# Altium integrated library Philips Discrete BJT - Low Power.IntLib: 311 symbols (part 3 of 5)
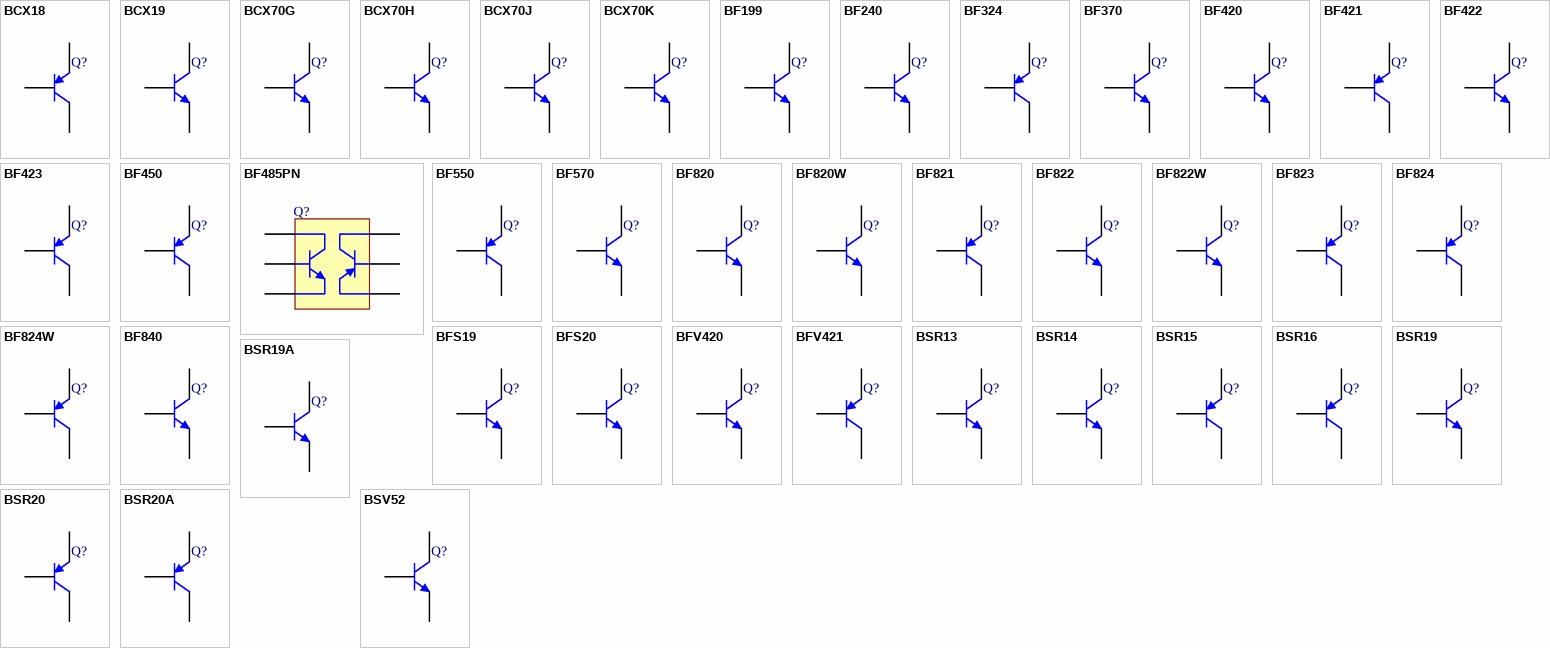
[diagram p10: symbols BCX18 to BSV52]

## BFS20
designator Q?
NPN Medium Frequency Transistor; Published: 17-Sep-2003; DatasheetVersion: 15-Apr-1999; PackageVersion: May-1999; PackageReference: SOT23; Publisher: Altium Limited; PackageDescription: SOT-23; 3 Leads; Body 3.0 x 2.5 mm, inc. leads (LxW max); ComponentLink1Description: Manufacturer Link; ComponentLink1URL: http://www.semiconductors.philips.com/; ComponentLink2Description: Datasheet; ComponentLink2URL: http://www.semiconductors.philips.com/acrobat/datasheets/BFS20_5.pdf
footprint SOT23 (SOT-23; 3 Leads; Body 3.0 x 2.5 mm, inc. leads (LxW max))
simulation model QBFS20 (NPN)
signal-integrity model BFS20
pins: 1 B, 2 E, 3 C

## BFV420
designator Q?
NPN High-voltage Transistor; Published: 17-Sep-2003; DatasheetVersion: 23-Apr-1999; PackageVersion: rev3, May-2000; PackageReference: SOT54; Publisher: Altium Limited; PackageDescription: TO, Flat Index; 3 In-Line, Axial Leads; Body Dia. 4.6mm; Leads 0.48 x 0.45 mm (max); Code_JEDEC: TO-92; ComponentLink1Description: Manufacturer Link; ComponentLink1URL: http://www.semiconductors.philips.com/; ComponentLink2Description: Datasheet; ComponentLink2URL: http://www.semiconductors.philips.com/acrobat/datasheets/BFV420_3.pdf
footprint SOT54 (TO, Flat Index; 3 In-Line, Axial Leads; Body Dia. 4.6mm; Leads 0.48 x 0.45 mm (max))
simulation model QBFV420 (NPN)
signal-integrity model BFV420
pins: 1 B, 2 C, 3 E

## BFV421
designator Q?
PNP High-voltage Transistor; Published: 17-Sep-2003; DatasheetVersion: 23-Apr-1999; PackageVersion: rev3, May-2000; PackageReference: SOT54; Publisher: Altium Limited; PackageDescription: TO, Flat Index; 3 In-Line, Axial Leads; Body Dia. 4.6mm; Leads 0.48 x 0.45 mm (max); Code_JEDEC: TO-92; ComponentLink1Description: Manufacturer Link; ComponentLink1URL: http://www.semiconductors.philips.com/; ComponentLink2Description: Datasheet; ComponentLink2URL: http://www.semiconductors.philips.com/acrobat/datasheets/BFV421_3.pdf
footprint SOT54 (TO, Flat Index; 3 In-Line, Axial Leads; Body Dia. 4.6mm; Leads 0.48 x 0.45 mm (max))
simulation model QBFV421 (PNP)
signal-integrity model BFV421
pins: 1 B, 2 C, 3 E

## BSR13
designator Q?
NPN Switching Transistor; Published: 17-Sep-2003; DatasheetVersion: 15-Apr-1999; PackageVersion: May-1999; PackageReference: SOT23; Publisher: Altium Limited; PackageDescription: SOT-23; 3 Leads; Body 3.0 x 2.5 mm, inc. leads (LxW max); ComponentLink1Description: Manufacturer Link; ComponentLink1URL: http://www.semiconductors.philips.com/; ComponentLink2Description: Datasheet; ComponentLink2URL: http://www.semiconductors.philips.com/acrobat/datasheets/BSR13_BSR14_4.pdf
footprint SOT23 (SOT-23; 3 Leads; Body 3.0 x 2.5 mm, inc. leads (LxW max))
simulation model QBSR13 (NPN)
signal-integrity model BSR13
pins: 1 B, 2 E, 3 C

## BSR14
designator Q?
NPN Switching Transistor; Published: 17-Sep-2003; DatasheetVersion: 15-Apr-1999; PackageVersion: May-1999; PackageReference: SOT23; Publisher: Altium Limited; PackageDescription: SOT-23; 3 Leads; Body 3.0 x 2.5 mm, inc. leads (LxW max); ComponentLink1Description: Manufacturer Link; ComponentLink1URL: http://www.semiconductors.philips.com/; ComponentLink2Description: Datasheet; ComponentLink2URL: http://www.semiconductors.philips.com/acrobat/datasheets/BSR13_BSR14_4.pdf
footprint SOT23 (SOT-23; 3 Leads; Body 3.0 x 2.5 mm, inc. leads (LxW max))
simulation model QBSR14 (NPN)
signal-integrity model BSR14
pins: 1 B, 2 E, 3 C

## BSR15
designator Q?
PNP Switching Transistor; Published: 17-Sep-2003; DatasheetVersion: 15-Apr-1999; PackageVersion: May-1999; PackageReference: SOT23; Publisher: Altium Limited; PackageDescription: SOT-23; 3 Leads; Body 3.0 x 2.5 mm, inc. leads (LxW max); ComponentLink1Description: Manufacturer Link; ComponentLink1URL: http://www.semiconductors.philips.com/; ComponentLink2Description: Datasheet; ComponentLink2URL: http://www.semiconductors.philips.com/acrobat/datasheets/BSR15_BSR16_4.pdf
footprint SOT23 (SOT-23; 3 Leads; Body 3.0 x 2.5 mm, inc. leads (LxW max))
simulation model QBSR15 (PNP)
signal-integrity model BSR15
pins: 1 B, 2 E, 3 C

## BSR16
designator Q?
PNP Switching Transistor; Published: 17-Sep-2003; DatasheetVersion: 15-Apr-1999; PackageVersion: May-1999; PackageReference: SOT23; Publisher: Altium Limited; PackageDescription: SOT-23; 3 Leads; Body 3.0 x 2.5 mm, inc. leads (LxW max); ComponentLink1Description: Manufacturer Link; ComponentLink1URL: http://www.semiconductors.philips.com/; ComponentLink2Description: Datasheet; ComponentLink2URL: http://www.semiconductors.philips.com/acrobat/datasheets/BSR15_BSR16_4.pdf
footprint SOT23 (SOT-23; 3 Leads; Body 3.0 x 2.5 mm, inc. leads (LxW max))
simulation model QBSR16 (PNP)
signal-integrity model BSR16
pins: 1 B, 2 E, 3 C

## BSR19
designator Q?
NPN High-voltage Transistor; Published: 17-Sep-2003; DatasheetVersion: 21-Apr-1997; PackageVersion: May-1999; PackageReference: SOT23; Publisher: Altium Limited; PackageDescription: SOT-23; 3 Leads; Body 3.0 x 2.5 mm, inc. leads (LxW max); ComponentLink1Description: Manufacturer Link; ComponentLink1URL: http://www.semiconductors.philips.com/; ComponentLink2Description: Datasheet; ComponentLink2URL: http://www.semiconductors.philips.com/acrobat/datasheets/BSR19_BSR19A_4.pdf
footprint SOT23 (SOT-23; 3 Leads; Body 3.0 x 2.5 mm, inc. leads (LxW max))
simulation model QBSR19 (NPN)
signal-integrity model BSR19
pins: 1 B, 2 E, 3 C

## BSR19A
designator Q?
NPN High-voltage Transistor; Published: 17-Sep-2003; DatasheetVersion: 21-Apr-1997; PackageVersion: May-1999; PackageReference: SOT23; Publisher: Altium Limited; PackageDescription: SOT-23; 3 Leads; Body 3.0 x 2.5 mm, inc. leads (LxW max); ComponentLink1Description: Manufacturer Link; ComponentLink1URL: http://www.semiconductors.philips.com/; ComponentLink2Description: Datasheet; ComponentLink2URL: http://www.semiconductors.philips.com/acrobat/datasheets/BSR19_BSR19A_4.pdf
footprint SOT23 (SOT-23; 3 Leads; Body 3.0 x 2.5 mm, inc. leads (LxW max))
simulation model QBSR19A (NPN)
signal-integrity model BSR19A
pins: 1 B, 2 E, 3 C

## BSR20
designator Q?
PNP High-voltage Transistor; Published: 17-Sep-2003; DatasheetVersion: 21-Apr-1997; PackageVersion: May-1999; PackageReference: SOT23; Publisher: Altium Limited; PackageDescription: SOT-23; 3 Leads; Body 3.0 x 2.5 mm, inc. leads (LxW max); ComponentLink1Description: Manufacturer Link; ComponentLink1URL: http://www.semiconductors.philips.com/; ComponentLink2Description: Datasheet; ComponentLink2URL: http://www.semiconductors.philips.com/acrobat/datasheets/BSR20_BSR20A_4.pdf
footprint SOT23 (SOT-23; 3 Leads; Body 3.0 x 2.5 mm, inc. leads (LxW max))
simulation model QBSR20 (PNP)
signal-integrity model BSR20
pins: 1 B, 2 E, 3 C

## BSR20A
designator Q?
PNP High-voltage Transistor; Published: 17-Sep-2003; DatasheetVersion: 21-Apr-1997; PackageVersion: May-1999; PackageReference: SOT23; Publisher: Altium Limited; PackageDescription: SOT-23; 3 Leads; Body 3.0 x 2.5 mm, inc. leads (LxW max); ComponentLink1Description: Manufacturer Link; ComponentLink1URL: http://www.semiconductors.philips.com/; ComponentLink2Description: Datasheet; ComponentLink2URL: http://www.semiconductors.philips.com/acrobat/datasheets/BSR20_BSR20A_4.pdf
footprint SOT23 (SOT-23; 3 Leads; Body 3.0 x 2.5 mm, inc. leads (LxW max))
simulation model QBSR20A (PNP)
signal-integrity model BSR20A
pins: 1 B, 2 E, 3 C

## BSV52
designator Q?
NPN Switching Transistor; Published: 17-Sep-2003; DatasheetVersion: 15-Apr-1999; PackageVersion: May-1999; PackageReference: SOT23; Publisher: Altium Limited; PackageDescription: SOT-23; 3 Leads; Body 3.0 x 2.5 mm, inc. leads (LxW max); ComponentLink1Description: Manufacturer Link; ComponentLink1URL: http://www.semiconductors.philips.com/; ComponentLink2Description: Datasheet; ComponentLink2URL: http://www.semiconductors.philips.com/acrobat/datasheets/BSV52_4.pdf
footprint SOT23 (SOT-23; 3 Leads; Body 3.0 x 2.5 mm, inc. leads (LxW max))
simulation model BSV52 (SUBCKT)
signal-integrity model BSV52
pins: 1 B, 2 E, 3 C

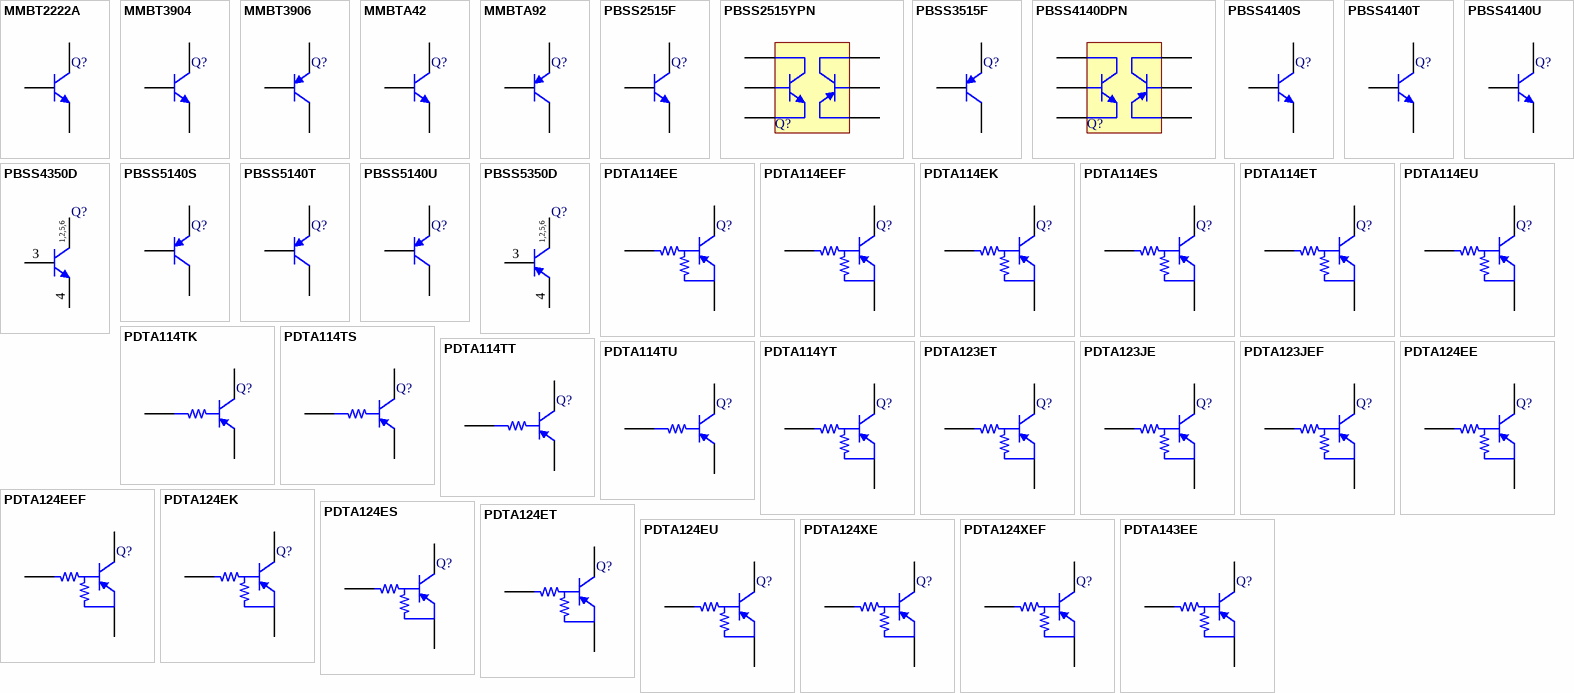
[diagram p4: symbols MMBT2222A to PDTA143EE]

## MMBT2222A
designator Q?
NPN Switching Transistor; Published: 17-Sep-2003; DatasheetVersion: 11-Apr-2000; PackageVersion: May-1999; PackageReference: SOT23; Publisher: Altium Limited; PackageDescription: SOT-23; 3 Leads; Body 3.0 x 2.5 mm, inc. leads (LxW max); ComponentLink1Description: Manufacturer Link; ComponentLink1URL: http://www.semiconductors.philips.com/; ComponentLink2Description: Datasheet; ComponentLink2URL: http://www.semiconductors.philips.com/acrobat/datasheets/MMBT2222A_2.pdf
footprint SOT23 (SOT-23; 3 Leads; Body 3.0 x 2.5 mm, inc. leads (LxW max))
simulation model QMMBT2222A (NPN)
signal-integrity model MMBT2222A
pins: 1 B, 2 E, 3 C

## MMBT3904
designator Q?
NPN Switching Transistor; Published: 17-Sep-2003; DatasheetVersion: 13-May-2002; PackageVersion: May-1999; PackageReference: SOT23; Publisher: Altium Limited; PackageDescription: SOT-23; 3 Leads; Body 3.0 x 2.5 mm, inc. leads (LxW max); ComponentLink1Description: Manufacturer Link; ComponentLink1URL: http://www.semiconductors.philips.com/; ComponentLink2Description: Datasheet; ComponentLink2URL: http://www.semiconductors.philips.com/acrobat/datasheets/MMBT3904_4.pdf
footprint SOT23 (SOT-23; 3 Leads; Body 3.0 x 2.5 mm, inc. leads (LxW max))
simulation model QMMBT3904 (NPN)
signal-integrity model MMBT3904
pins: 1 B, 2 E, 3 C

## MMBT3906
designator Q?
PNP Switching Transistor; Published: 17-Sep-2003; DatasheetVersion: 11-Apr-2000; PackageVersion: May-1999; PackageReference: SOT23; Publisher: Altium Limited; PackageDescription: SOT-23; 3 Leads; Body 3.0 x 2.5 mm, inc. leads (LxW max); ComponentLink1Description: Manufacturer Link; ComponentLink1URL: http://www.semiconductors.philips.com/; ComponentLink2Description: Datasheet; ComponentLink2URL: http://www.semiconductors.philips.com/acrobat/datasheets/MMBT3906_2.pdf
footprint SOT23 (SOT-23; 3 Leads; Body 3.0 x 2.5 mm, inc. leads (LxW max))
simulation model QMMBT3906 (PNP)
signal-integrity model MMBT3906
pins: 1 B, 2 E, 3 C

## MMBTA42
designator Q?
NPN High-voltage Transistor; Published: 17-Sep-2003; DatasheetVersion: 11-Apr-2000; PackageVersion: May-1999; PackageReference: SOT23; Publisher: Altium Limited; PackageDescription: SOT-23; 3 Leads; Body 3.0 x 2.5 mm, inc. leads (LxW max); ComponentLink1Description: Manufacturer Link; ComponentLink1URL: http://www.semiconductors.philips.com/; ComponentLink2Description: Datasheet; ComponentLink2URL: http://www.semiconductors.philips.com/acrobat/datasheets/MMBTA42_1.pdf
footprint SOT23 (SOT-23; 3 Leads; Body 3.0 x 2.5 mm, inc. leads (LxW max))
simulation model MMBTA42 (SUBCKT)
signal-integrity model MMBTA42
pins: 1 B, 2 E, 3 C

## MMBTA92
designator Q?
PNP High-voltage Transistor; Published: 17-Sep-2003; DatasheetVersion: 11-Apr-2000; PackageVersion: May-1999; PackageReference: SOT23; Publisher: Altium Limited; PackageDescription: SOT-23; 3 Leads; Body 3.0 x 2.5 mm, inc. leads (LxW max); ComponentLink1Description: Manufacturer Link; ComponentLink1URL: http://www.semiconductors.philips.com/; ComponentLink2Description: Datasheet; ComponentLink2URL: http://www.semiconductors.philips.com/acrobat/datasheets/MMBTA92_2.pdf
footprint SOT23 (SOT-23; 3 Leads; Body 3.0 x 2.5 mm, inc. leads (LxW max))
simulation model MMBTA92 (SUBCKT)
signal-integrity model MMBTA92
pins: 1 B, 2 E, 3 C

## PBSS2515F
designator Q?
15V Low VCEsat NPN Transistor; Published: 17-Sep-2003; DatasheetVersion: 21-Sep-2001; PackageVersion: Oct-1998; PackageReference: SOT490; Publisher: Altium Limited; PackageDescription: SC-89; 3 Flat Leads; Body 1.6 x 1.6 x 0.7 mm, inc leads (LxWxH typ); ComponentLink1Description: Manufacturer Link; ComponentLink1URL: http://www.semiconductors.philips.com/; ComponentLink2Description: Datasheet; ComponentLink2URL: http://www.semiconductors.philips.com/acrobat/datasheets/PBSS2515F_3.pdf
footprint SOT490 (SC-89; 3 Flat Leads; Body 1.6 x 1.6 x 0.7 mm, inc leads (LxWxH typ))
simulation model PBSS2515F (SUBCKT)
signal-integrity model PBSS2515F
pins: 1 B, 2 E, 3 C

## PBSS2515YPN
designator Q?
15V Low VCEsat NPN/PNP Transistors; Published: 17-Sep-2003; DatasheetVersion: 8-May-2002; PackageVersion: Feb-1997; PackageReference: SOT363; Publisher: Altium Limited; PackageDescription: SOT-363/SC-88; 6 Leads; Body 2.2 x 2.2 mm, inc. leads (LxW max); ComponentLink1Description: Manufacturer Link; ComponentLink1URL: http://www.semiconductors.philips.com/; ComponentLink2Description: Datasheet; ComponentLink2URL: http://www.semiconductors.philips.com/acrobat/datasheets/PBSS2515YPN_3.pdf
footprint SOT363 (SOT-363/SC-88; 6 Leads; Body 2.2 x 2.2 mm, inc. leads (LxW max))
simulation model PBSS2515YPN (SUBCKT)
signal-integrity model PBSS2515YPN
pins: 1 E1, 2 B1, 3 C2, 4 E2, 5 B2, 6 C1

## PBSS3515F
designator Q?
15V Low VCEsat PNP Transistor; Published: 17-Sep-2003; DatasheetVersion: 21-Sep-2001; PackageVersion: Oct-1998; PackageReference: SOT490; Publisher: Altium Limited; PackageDescription: SC-89; 3 Flat Leads; Body 1.6 x 1.6 x 0.7 mm, inc leads (LxWxH typ); ComponentLink1Description: Manufacturer Link; ComponentLink1URL: http://www.semiconductors.philips.com/; ComponentLink2Description: Datasheet; ComponentLink2URL: http://www.semiconductors.philips.com/acrobat/datasheets/PBSS3515F_3.pdf
footprint SOT490 (SC-89; 3 Flat Leads; Body 1.6 x 1.6 x 0.7 mm, inc leads (LxWxH typ))
simulation model PBSS3515F (SUBCKT)
signal-integrity model PBSS3515F
pins: 1 B, 2 E, 3 C

## PBSS4140DPN
designator Q?
40 V Low VCEsat NPN/PNP Transistors; Published: 17-Sep-2003; DatasheetVersion: 13-Dec-2001; PackageVersion: May-2001; PackageReference: SOT457; Publisher: Altium Limited; PackageDescription: SOT-457/SC-74; 6 Leads; Body 3.1 x 3 mm, inc. leads (LxW max); ComponentLink1Description: Manufacturer Link; ComponentLink1URL: http://www.semiconductors.philips.com/; ComponentLink2Description: Datasheet; ComponentLink2URL: http://www.semiconductors.philips.com/acrobat/datasheets/PBSS4140DPN_1.pdf
footprint SOT457 (SOT-457/SC-74; 6 Leads; Body 3.1 x 3 mm, inc. leads (LxW max))
simulation model PBSS4140DPN (SUBCKT)
signal-integrity model PBSS4140DPN
pins: 1 E1, 2 B1, 3 C2, 4 E2, 5 B2, 6 C1

## PBSS4140S
designator Q?
40V Low VCEsat NPN Transistor; Published: 17-Sep-2003; DatasheetVersion: 27-Nov-2001; PackageVersion: rev3, May-2000; PackageReference: SOT54; Publisher: Altium Limited; PackageDescription: TO, Flat Index; 3 In-Line, Axial Leads; Body Dia. 4.6mm; Leads 0.48 x 0.45 mm (max); Code_JEDEC: TO-92; ComponentLink1Description: Manufacturer Link; ComponentLink1URL: http://www.semiconductors.philips.com/; ComponentLink2Description: Datasheet; ComponentLink2URL: http://www.semiconductors.philips.com/acrobat/datasheets/PBSS4140S_2.pdf
footprint SOT54 (TO, Flat Index; 3 In-Line, Axial Leads; Body Dia. 4.6mm; Leads 0.48 x 0.45 mm (max))
simulation model PBSS4140S (SUBCKT)
signal-integrity model PBSS4140S
pins: 1 B, 2 C, 3 E

## PBSS4140T
designator Q?
40V Low VCEsat NPN Transistor; Published: 17-Sep-2003; DatasheetVersion: 13-Jul-2001; PackageVersion: May-1999; PackageReference: SOT23; Publisher: Altium Limited; PackageDescription: SOT-23; 3 Leads; Body 3.0 x 2.5 mm, inc. leads (LxW max); ComponentLink1Description: Manufacturer Link; ComponentLink1URL: http://www.semiconductors.philips.com/; ComponentLink2Description: Datasheet; ComponentLink2URL: http://www.semiconductors.philips.com/acrobat/datasheets/PBSS4140T_5.pdf
footprint SOT23 (SOT-23; 3 Leads; Body 3.0 x 2.5 mm, inc. leads (LxW max))
simulation model PBSS4140T (SUBCKT)
signal-integrity model PBSS4140T
pins: 1 B, 2 E, 3 C

## PBSS4140U
designator Q?
40V Low VCEsat NPN Transistor; Published: 17-Sep-2003; DatasheetVersion: 13-Jul-2001; PackageVersion: Apr-1999; PackageReference: SOT323; Publisher: Altium Limited; PackageDescription: SOT-323/SC-70; 3 Leads; Body 2.2 x 2.2 mm, inc. leads (LxW max); ComponentLink1Description: Manufacturer Link; ComponentLink1URL: http://www.semiconductors.philips.com/; ComponentLink2Description: Datasheet; ComponentLink2URL: http://www.semiconductors.philips.com/acrobat/datasheets/PBSS4140U_2.pdf
footprint SOT323 (SOT-323/SC-70; 3 Leads; Body 2.2 x 2.2 mm, inc. leads (LxW max))
simulation model PBSS4140U (SUBCKT)
signal-integrity model PBSS4140U
pins: 1 B, 2 E, 3 C

## PBSS4350D
designator Q?
50V Low VCEsat NPN Transistor; Published: 17-Sep-2003; DatasheetVersion: 13-Jul-2001; PackageVersion: May-2001; PackageReference: SOT457; Publisher: Altium Limited; PackageDescription: SOT-457/SC-74; 6 Leads; Body 3.1 x 3 mm, inc. leads (LxW max); ComponentLink1Description: Manufacturer Link; ComponentLink1URL: http://www.semiconductors.philips.com/; ComponentLink2Description: Datasheet; ComponentLink2URL: http://www.semiconductors.philips.com/acrobat/datasheets/PBSS4350D_3.pdf
footprint SOT457 (SOT-457/SC-74; 6 Leads; Body 3.1 x 3 mm, inc. leads (LxW max))
simulation model PBSS4350D (SUBCKT)
signal-integrity model PBSS4350D
pins: 1 C, 2 C, 3 B, 4 E, 5 C, 6 C
text: 1,2,5,6

## PBSS5140S
designator Q?
40V Low VCEsat PNP Transistor; Published: 17-Sep-2003; DatasheetVersion: 15-Nov-2001; PackageVersion: rev3, May-2000; PackageReference: SOT54; Publisher: Altium Limited; PackageDescription: TO, Flat Index; 3 In-Line, Axial Leads; Body Dia. 4.6mm; Leads 0.48 x 0.45 mm (max); Code_JEDEC: TO-92; ComponentLink1Description: Manufacturer Link; ComponentLink1URL: http://www.semiconductors.philips.com/; ComponentLink2Description: Datasheet; ComponentLink2URL: http://www.semiconductors.philips.com/acrobat/datasheets/PBSS5140S_2.pdf
footprint SOT54 (TO, Flat Index; 3 In-Line, Axial Leads; Body Dia. 4.6mm; Leads 0.48 x 0.45 mm (max))
simulation model PBSS5140S (SUBCKT)
signal-integrity model PBSS5140S
pins: 1 B, 2 C, 3 E

## PBSS5140T
designator Q?
40V Low VCEsat PNP Transistor; Published: 17-Sep-2003; DatasheetVersion: 20-Jul-2001; PackageVersion: May-1999; PackageReference: SOT23; Publisher: Altium Limited; PackageDescription: SOT-23; 3 Leads; Body 3.0 x 2.5 mm, inc. leads (LxW max); ComponentLink1Description: Manufacturer Link; ComponentLink1URL: http://www.semiconductors.philips.com/; ComponentLink2Description: Datasheet; ComponentLink2URL: http://www.semiconductors.philips.com/acrobat/datasheets/PBSS5140T_3.pdf
footprint SOT23 (SOT-23; 3 Leads; Body 3.0 x 2.5 mm, inc. leads (LxW max))
simulation model PBSS5140T (SUBCKT)
signal-integrity model PBSS5140T
pins: 1 B, 2 E, 3 C

## PBSS5140U
designator Q?
40V Low VCEsat PNP Transistor; Published: 17-Sep-2003; DatasheetVersion: 20-Jul-2001; PackageVersion: Apr-1999; PackageReference: SOT323; Publisher: Altium Limited; PackageDescription: SOT-323/SC-70; 3 Leads; Body 2.2 x 2.2 mm, inc. leads (LxW max); ComponentLink1Description: Manufacturer Link; ComponentLink1URL: http://www.semiconductors.philips.com/; ComponentLink2Description: Datasheet; ComponentLink2URL: http://www.semiconductors.philips.com/acrobat/datasheets/PBSS5140U_2.pdf
footprint SOT323 (SOT-323/SC-70; 3 Leads; Body 2.2 x 2.2 mm, inc. leads (LxW max))
simulation model PBSS5140U (SUBCKT)
signal-integrity model PBSS5140U
pins: 1 B, 2 E, 3 C

## PBSS5350D
designator Q?
50V Low VCEsat PNP Transistor; Published: 17-Sep-2003; DatasheetVersion: 13-Nov-2001; PackageVersion: May-2001; PackageReference: SOT457; Publisher: Altium Limited; PackageDescription: SOT-457/SC-74; 6 Leads; Body 3.1 x 3 mm, inc. leads (LxW max); ComponentLink1Description: Manufacturer Link; ComponentLink1URL: http://www.semiconductors.philips.com/; ComponentLink2Description: Datasheet; ComponentLink2URL: http://www.semiconductors.philips.com/acrobat/datasheets/PBSS5350D_4.pdf
footprint SOT457 (SOT-457/SC-74; 6 Leads; Body 3.1 x 3 mm, inc. leads (LxW max))
simulation model PBSS5350D (SUBCKT)
signal-integrity model PBSS5350D
pins: 1 C, 2 C, 3 B, 4 E, 5 C, 6 C
text: 1,2,5,6

## PDTA114EE
designator Q?
PNP Resistor-equipped Transistor; Published: 17-Sep-2003; DatasheetVersion: 23-Jul-1998; PackageVersion: Apr-1999; PackageReference: SOT416; Publisher: Altium Limited; PackageDescription: SOT-416/SC-90/SC-75; 3 Leads; Body 1.8 x 1.8 mm, inc. leads (LxW max); ComponentLink1Description: Manufacturer Link; ComponentLink1URL: http://www.semiconductors.philips.com/; ComponentLink2Description: Datasheet; ComponentLink2URL: http://www.semiconductors.philips.com/acrobat/datasheets/PDTA114E_SERIES_8.pdf
footprint SOT416 (SOT-416/SC-90/SC-75; 3 Leads; Body 1.8 x 1.8 mm, inc. leads (LxW max))
simulation model PDTA114EE (SUBCKT)
signal-integrity model PDTA114EE
pins: 1 B, 2 E, 3 C

## PDTA114EEF
designator Q?
PNP Resistor-equipped Transistor; Published: 17-Sep-2003; DatasheetVersion: 21-May-1999; PackageVersion: Oct-1998; PackageReference: SOT490; Publisher: Altium Limited; PackageDescription: SC-89; 3 Flat Leads; Body 1.6 x 1.6 x 0.7 mm, inc leads (LxWxH typ); ComponentLink1Description: Manufacturer Link; ComponentLink1URL: http://www.semiconductors.philips.com/; ComponentLink2Description: Datasheet; ComponentLink2URL: http://www.semiconductors.philips.com/acrobat/datasheets/PDTA114E_SERIES_8.pdf
footprint SOT490 (SC-89; 3 Flat Leads; Body 1.6 x 1.6 x 0.7 mm, inc leads (LxWxH typ))
simulation model PDTA114EEF (SUBCKT)
signal-integrity model PDTA114EEF
pins: 1 B, 2 E, 3 C

## PDTA114EK
designator Q?
PNP Resistor-equipped Transistor; Published: 17-Sep-2003; DatasheetVersion: 19-May-1998; PackageVersion: Apr-1999; PackageReference: SOT346; Publisher: Altium Limited; PackageDescription: SOT-23; 3 Leads; Body 3.1 x 3.0 mm, inc. leads (LxW max); Code_JEDEC: TO-236; ComponentLink1Description: Manufacturer Link; ComponentLink1URL: http://www.semiconductors.philips.com/; ComponentLink2Description: Datasheet; ComponentLink2URL: http://www.semiconductors.philips.com/acrobat/datasheets/PDTA114E_SERIES_8.pdf
footprint SOT346 (SOT-23; 3 Leads; Body 3.1 x 3.0 mm, inc. leads (LxW max))
simulation model PDTA114EK (SUBCKT)
signal-integrity model PDTA114EK
pins: 1 B, 2 E, 3 C

## PDTA114ES
designator Q?
PNP Resistor-equipped Transistor; Published: 17-Sep-2003; DatasheetVersion: 18-May-1998; PackageVersion: rev3, May-2000; PackageReference: SOT54; Publisher: Altium Limited; PackageDescription: TO, Flat Index; 3 In-Line, Axial Leads; Body Dia. 4.6mm; Leads 0.48 x 0.45 mm (max); Code_JEDEC: TO-92; ComponentLink1Description: Manufacturer Link; ComponentLink1URL: http://www.semiconductors.philips.com/; ComponentLink2Description: Datasheet; ComponentLink2URL: http://www.semiconductors.philips.com/acrobat/datasheets/PDTA114E_SERIES_8.pdf
footprint SOT54 (TO, Flat Index; 3 In-Line, Axial Leads; Body Dia. 4.6mm; Leads 0.48 x 0.45 mm (max))
simulation model PDTA114ES (SUBCKT)
signal-integrity model PDTA114ES
pins: 1 B, 2 C, 3 E

## PDTA114ET
designator Q?
PNP Resistor-equipped Transistor; Published: 17-Sep-2003; DatasheetVersion: 13-Apr-1999; PackageVersion: May-1999; PackageReference: SOT23; Publisher: Altium Limited; PackageDescription: SOT-23; 3 Leads; Body 3.0 x 2.5 mm, inc. leads (LxW max); ComponentLink1Description: Manufacturer Link; ComponentLink1URL: http://www.semiconductors.philips.com/; ComponentLink2Description: Datasheet; ComponentLink2URL: http://www.semiconductors.philips.com/acrobat/datasheets/PDTA114E_SERIES_8.pdf
footprint SOT23 (SOT-23; 3 Leads; Body 3.0 x 2.5 mm, inc. leads (LxW max))
simulation model PDTA114ET (SUBCKT)
signal-integrity model PDTA114ET
pins: 1 B, 2 E, 3 C

## PDTA114EU
designator Q?
PNP Resistor-equipped Transistor; Published: 17-Sep-2003; DatasheetVersion: 13-Apr-1999; PackageVersion: Apr-1999; PackageReference: SOT323; Publisher: Altium Limited; PackageDescription: SOT-323/SC-70; 3 Leads; Body 2.2 x 2.2 mm, inc. leads (LxW max); ComponentLink1Description: Manufacturer Link; ComponentLink1URL: http://www.semiconductors.philips.com/; ComponentLink2Description: Datasheet; ComponentLink2URL: http://www.semiconductors.philips.com/acrobat/datasheets/PDTA114E_SERIES_8.pdf
footprint SOT323 (SOT-323/SC-70; 3 Leads; Body 2.2 x 2.2 mm, inc. leads (LxW max))
simulation model PDTA114EU (SUBCKT)
signal-integrity model PDTA114EU
pins: 1 B, 2 E, 3 C

## PDTA114TK
designator Q?
PNP Resistor-equipped Transistor; Published: 17-Sep-2003; DatasheetVersion: 15-May-1998; PackageVersion: Apr-1999; PackageReference: SOT346; Publisher: Altium Limited; PackageDescription: SOT-23; 3 Leads; Body 3.1 x 3.0 mm, inc. leads (LxW max); Code_JEDEC: TO-236; ComponentLink1Description: Manufacturer Link; ComponentLink1URL: http://www.semiconductors.philips.com/; ComponentLink2Description: Datasheet; ComponentLink2URL: http://www.semiconductors.philips.com/acrobat/datasheets/PDTA114T_SERIES_6.pdf
footprint SOT346 (SOT-23; 3 Leads; Body 3.1 x 3.0 mm, inc. leads (LxW max))
simulation model PDTA114TK (SUBCKT)
signal-integrity model PDTA114TK
pins: 1 B, 2 E, 3 C

## PDTA114TS
designator Q?
PNP Resistor-equipped Transistor; Published: 17-Sep-2003; DatasheetVersion: 15-May-1998; PackageVersion: rev3, May-2000; PackageReference: SOT54; Publisher: Altium Limited; PackageDescription: TO, Flat Index; 3 In-Line, Axial Leads; Body Dia. 4.6mm; Leads 0.48 x 0.45 mm (max); Code_JEDEC: TO-92; ComponentLink1Description: Manufacturer Link; ComponentLink1URL: http://www.semiconductors.philips.com/; ComponentLink2Description: Datasheet; ComponentLink2URL: http://www.semiconductors.philips.com/acrobat/datasheets/PDTA114T_SERIES_6.pdf
footprint SOT54 (TO, Flat Index; 3 In-Line, Axial Leads; Body Dia. 4.6mm; Leads 0.48 x 0.45 mm (max))
simulation model PDTA114TS (SUBCKT)
signal-integrity model PDTA114TS
pins: 1 B, 2 C, 3 E

## PDTA114TT
designator Q?
PNP Resistor-equipped Transistor; Published: 17-Sep-2003; DatasheetVersion: 13-Apr-1999; PackageVersion: May-1999; PackageReference: SOT23; Publisher: Altium Limited; PackageDescription: SOT-23; 3 Leads; Body 3.0 x 2.5 mm, inc. leads (LxW max); ComponentLink1Description: Manufacturer Link; ComponentLink1URL: http://www.semiconductors.philips.com/; ComponentLink2Description: Datasheet; ComponentLink2URL: http://www.semiconductors.philips.com/acrobat/datasheets/PDTA114T_SERIES_6.pdf
footprint SOT23 (SOT-23; 3 Leads; Body 3.0 x 2.5 mm, inc. leads (LxW max))
simulation model PDTA114TT (SUBCKT)
signal-integrity model PDTA114TT
pins: 1 B, 2 E, 3 C

## PDTA114TU
designator Q?
PNP Resistor-equipped Transistor; Published: 17-Sep-2003; DatasheetVersion: 13-Apr-1999; PackageVersion: Apr-1999; PackageReference: SOT323; Publisher: Altium Limited; PackageDescription: SOT-323/SC-70; 3 Leads; Body 2.2 x 2.2 mm, inc. leads (LxW max); ComponentLink1Description: Manufacturer Link; ComponentLink1URL: http://www.semiconductors.philips.com/; ComponentLink2Description: Datasheet; ComponentLink2URL: http://www.semiconductors.philips.com/acrobat/datasheets/PDTA114T_SERIES_6.pdf
footprint SOT323 (SOT-323/SC-70; 3 Leads; Body 2.2 x 2.2 mm, inc. leads (LxW max))
simulation model PDTA114TU (SUBCKT)
signal-integrity model PDTA114TU
pins: 1 B, 2 E, 3 C

## PDTA114YT
designator Q?
PNP Resistor-equipped Transistor; Published: 17-Sep-2003; DatasheetVersion: 20-Apr-1999; PackageVersion: May-1999; PackageReference: SOT23; Publisher: Altium Limited; PackageDescription: SOT-23; 3 Leads; Body 3.0 x 2.5 mm, inc. leads (LxW max); ComponentLink1Description: Manufacturer Link; ComponentLink1URL: http://www.semiconductors.philips.com/; ComponentLink2Description: Datasheet; ComponentLink2URL: http://www.semiconductors.philips.com/acrobat/datasheets/PDTA114Y_SERIES_4.pdf
footprint SOT23 (SOT-23; 3 Leads; Body 3.0 x 2.5 mm, inc. leads (LxW max))
simulation model PDTA114YT (SUBCKT)
signal-integrity model PDTA114YT
pins: 1 B, 2 E, 3 C

## PDTA123ET
designator Q?
PNP Resistor-equipped Transistor; Published: 17-Sep-2003; DatasheetVersion: 21-May-1999; PackageVersion: May-1999; PackageReference: SOT23; Publisher: Altium Limited; PackageDescription: SOT-23; 3 Leads; Body 3.0 x 2.5 mm, inc. leads (LxW max); ComponentLink1Description: Manufacturer Link; ComponentLink1URL: http://www.semiconductors.philips.com/; ComponentLink2Description: Datasheet; ComponentLink2URL: http://www.semiconductors.philips.com/acrobat/datasheets/PDTA123E_SERIES_7.pdf
footprint SOT23 (SOT-23; 3 Leads; Body 3.0 x 2.5 mm, inc. leads (LxW max))
simulation model PDTA123ET (SUBCKT)
signal-integrity model PDTA123ET
pins: 1 B, 2 E, 3 C

## PDTA123JE
designator Q?
PNP Resistor-equipped Transistor; Published: 17-Sep-2003; DatasheetVersion: 25-Nov-1998; PackageVersion: Apr-1999; PackageReference: SOT416; Publisher: Altium Limited; PackageDescription: SOT-416/SC-90/SC-75; 3 Leads; Body 1.8 x 1.8 mm, inc. leads (LxW max); ComponentLink1Description: Manufacturer Link; ComponentLink1URL: http://www.semiconductors.philips.com/; ComponentLink2Description: Datasheet; ComponentLink2URL: http://www.semiconductors.philips.com/acrobat/datasheets/PDTA123J_SERIES_4.pdf
footprint SOT416 (SOT-416/SC-90/SC-75; 3 Leads; Body 1.8 x 1.8 mm, inc. leads (LxW max))
simulation model PDTA123JE (SUBCKT)
signal-integrity model PDTA123JE
pins: 1 B, 2 E, 3 C

## PDTA123JEF
designator Q?
PNP Resistor-equipped Transistor; Published: 17-Sep-2003; DatasheetVersion: 20-Apr-1999; PackageVersion: Oct-1998; PackageReference: SOT490; Publisher: Altium Limited; PackageDescription: SC-89; 3 Flat Leads; Body 1.6 x 1.6 x 0.7 mm, inc leads (LxWxH typ); ComponentLink1Description: Manufacturer Link; ComponentLink1URL: http://www.semiconductors.philips.com/; ComponentLink2Description: Datasheet; ComponentLink2URL: http://www.semiconductors.philips.com/acrobat/datasheets/PDTA123J_SERIES_4.pdf
footprint SOT490 (SC-89; 3 Flat Leads; Body 1.6 x 1.6 x 0.7 mm, inc leads (LxWxH typ))
simulation model PDTA123JEF (SUBCKT)
signal-integrity model PDTA123JEF
pins: 1 B, 2 E, 3 C

## PDTA124EE
designator Q?
PNP Resistor-equipped Transistor; Published: 17-Sep-2003; DatasheetVersion: 23-Jul-1998; PackageVersion: Apr-1999; PackageReference: SOT416; Publisher: Altium Limited; PackageDescription: SOT-416/SC-90/SC-75; 3 Leads; Body 1.8 x 1.8 mm, inc. leads (LxW max); ComponentLink1Description: Manufacturer Link; ComponentLink1URL: http://www.semiconductors.philips.com/; ComponentLink2Description: Datasheet; ComponentLink2URL: http://www.semiconductors.philips.com/acrobat/datasheets/PDTA124E_SERIES_7.pdf
footprint SOT416 (SOT-416/SC-90/SC-75; 3 Leads; Body 1.8 x 1.8 mm, inc. leads (LxW max))
simulation model PDTA124EE (SUBCKT)
signal-integrity model PDTA124EE
pins: 1 B, 2 E, 3 C

## PDTA124EEF
designator Q?
PNP Resistor-equipped Transistor; Published: 17-Sep-2003; DatasheetVersion: 11-Jun-2001; PackageVersion: Oct-1998; PackageReference: SOT490; Publisher: Altium Limited; PackageDescription: SC-89; 3 Flat Leads; Body 1.6 x 1.6 x 0.7 mm, inc leads (LxWxH typ); ComponentLink1Description: Manufacturer Link; ComponentLink1URL: http://www.semiconductors.philips.com/; ComponentLink2Description: Datasheet; ComponentLink2URL: http://www.semiconductors.philips.com/acrobat/datasheets/PDTA124E_SERIES_7.pdf
footprint SOT490 (SC-89; 3 Flat Leads; Body 1.6 x 1.6 x 0.7 mm, inc leads (LxWxH typ))
simulation model PDTA124EEF (SUBCKT)
signal-integrity model PDTA124EEF
pins: 1 B, 2 E, 3 C

## PDTA124EK
designator Q?
PNP Resistor-equipped Transistor; Published: 17-Sep-2003; DatasheetVersion: 18-May-1998; PackageVersion: Apr-1999; PackageReference: SOT346; Publisher: Altium Limited; PackageDescription: SOT-23; 3 Leads; Body 3.1 x 3.0 mm, inc. leads (LxW max); Code_JEDEC: TO-236; ComponentLink1Description: Manufacturer Link; ComponentLink1URL: http://www.semiconductors.philips.com/; ComponentLink2Description: Datasheet; ComponentLink2URL: http://www.semiconductors.philips.com/acrobat/datasheets/PDTA124E_SERIES_7.pdf
footprint SOT346 (SOT-23; 3 Leads; Body 3.1 x 3.0 mm, inc. leads (LxW max))
simulation model PDTA124EK (SUBCKT)
signal-integrity model PDTA124EK
pins: 1 B, 2 E, 3 C

## PDTA124ES
designator Q?
PNP Resistor-equipped Transistor; Published: 17-Sep-2003; DatasheetVersion: 20-May-1998; PackageVersion: rev3, May-2000; PackageReference: SOT54; Publisher: Altium Limited; PackageDescription: TO, Flat Index; 3 In-Line, Axial Leads; Body Dia. 4.6mm; Leads 0.48 x 0.45 mm (max); Code_JEDEC: TO-92; ComponentLink1Description: Manufacturer Link; ComponentLink1URL: http://www.semiconductors.philips.com/; ComponentLink2Description: Datasheet; ComponentLink2URL: http://www.semiconductors.philips.com/acrobat/datasheets/PDTA124E_SERIES_7.pdf
footprint SOT54 (TO, Flat Index; 3 In-Line, Axial Leads; Body Dia. 4.6mm; Leads 0.48 x 0.45 mm (max))
simulation model PDTA124ES (SUBCKT)
signal-integrity model PDTA124ES
pins: 1 B, 2 C, 3 E

## PDTA124ET
designator Q?
PNP Resistor-equipped Transistor; Published: 17-Sep-2003; DatasheetVersion: 13-Apr-1999; PackageVersion: May-1999; PackageReference: SOT23; Publisher: Altium Limited; PackageDescription: SOT-23; 3 Leads; Body 3.0 x 2.5 mm, inc. leads (LxW max); ComponentLink1Description: Manufacturer Link; ComponentLink1URL: http://www.semiconductors.philips.com/; ComponentLink2Description: Datasheet; ComponentLink2URL: http://www.semiconductors.philips.com/acrobat/datasheets/PDTA124E_SERIES_7.pdf
footprint SOT23 (SOT-23; 3 Leads; Body 3.0 x 2.5 mm, inc. leads (LxW max))
simulation model PDTA124ET (SUBCKT)
signal-integrity model PDTA124ET
pins: 1 B, 2 E, 3 C

## PDTA124EU
designator Q?
PNP Resistor-equipped Transistor; Published: 17-Sep-2003; DatasheetVersion: 13-Apr-1999; PackageVersion: Apr-1999; PackageReference: SOT323; Publisher: Altium Limited; PackageDescription: SOT-323/SC-70; 3 Leads; Body 2.2 x 2.2 mm, inc. leads (LxW max); ComponentLink1Description: Manufacturer Link; ComponentLink1URL: http://www.semiconductors.philips.com/; ComponentLink2Description: Datasheet; ComponentLink2URL: http://www.semiconductors.philips.com/acrobat/datasheets/PDTA124E_SERIES_7.pdf
footprint SOT323 (SOT-323/SC-70; 3 Leads; Body 2.2 x 2.2 mm, inc. leads (LxW max))
simulation model PDTA124EU (SUBCKT)
signal-integrity model PDTA124EU
pins: 1 B, 2 E, 3 C

## PDTA124XE
designator Q?
PNP Resistor-equipped Transistor; Published: 17-Sep-2003; DatasheetVersion: 21-May-1999; PackageVersion: Apr-1999; PackageReference: SOT416; Publisher: Altium Limited; PackageDescription: SOT-416/SC-90/SC-75; 3 Leads; Body 1.8 x 1.8 mm, inc. leads (LxW max); ComponentLink1Description: Manufacturer Link; ComponentLink1URL: http://www.semiconductors.philips.com/; ComponentLink2Description: Datasheet; ComponentLink2URL: http://www.semiconductors.philips.com/acrobat/datasheets/PDTA124X_SERIES_6.pdf
footprint SOT416 (SOT-416/SC-90/SC-75; 3 Leads; Body 1.8 x 1.8 mm, inc. leads (LxW max))
simulation model PDTA124XE (SUBCKT)
signal-integrity model PDTA124XE
pins: 1 B, 2 E, 3 C

## PDTA124XEF
designator Q?
PNP Resistor-equipped Transistor; Published: 17-Sep-2003; DatasheetVersion: 25-May-1999; PackageVersion: Oct-1998; PackageReference: SOT490; Publisher: Altium Limited; PackageDescription: SC-89; 3 Flat Leads; Body 1.6 x 1.6 x 0.7 mm, inc leads (LxWxH typ); ComponentLink1Description: Manufacturer Link; ComponentLink1URL: http://www.semiconductors.philips.com/; ComponentLink2Description: Datasheet; ComponentLink2URL: http://www.semiconductors.philips.com/acrobat/datasheets/PDTA124X_SERIES_6.pdf
footprint SOT490 (SC-89; 3 Flat Leads; Body 1.6 x 1.6 x 0.7 mm, inc leads (LxWxH typ))
simulation model PDTA124XEF (SUBCKT)
signal-integrity model PDTA124XEF
pins: 1 B, 2 E, 3 C

## PDTA143EE
designator Q?
PNP Resistor-equipped Transistor; Published: 17-Sep-2003; DatasheetVersion: 23-Jul-1998; PackageVersion: Apr-1999; PackageReference: SOT416; Publisher: Altium Limited; PackageDescription: SOT-416/SC-90/SC-75; 3 Leads; Body 1.8 x 1.8 mm, inc. leads (LxW max); ComponentLink1Description: Manufacturer Link; ComponentLink1URL: http://www.semiconductors.philips.com/; ComponentLink2Description: Datasheet; ComponentLink2URL: http://www.semiconductors.philips.com/acrobat/datasheets/PDTA143E_SERIES_7.pdf
footprint SOT416 (SOT-416/SC-90/SC-75; 3 Leads; Body 1.8 x 1.8 mm, inc. leads (LxW max))
simulation model PDTA143EE (SUBCKT)
signal-integrity model PDTA143EE
pins: 1 B, 2 E, 3 C

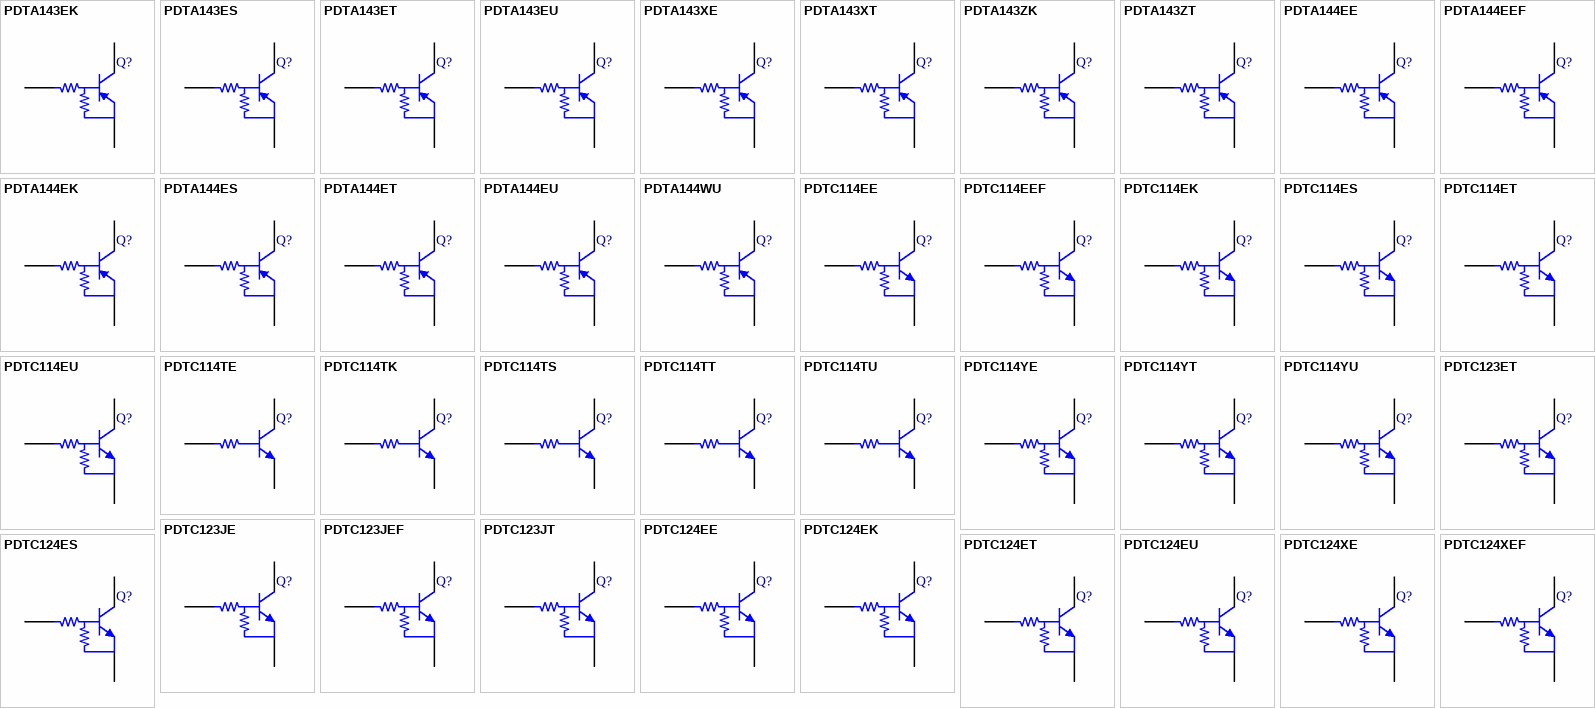
[diagram p5: symbols PDTA143EK to PDTC124XEF]

## PDTA143EK
designator Q?
PNP Resistor-equipped Transistor; Published: 17-Sep-2003; DatasheetVersion: 18-May-1998; PackageVersion: Apr-1999; PackageReference: SOT346; Publisher: Altium Limited; PackageDescription: SOT-23; 3 Leads; Body 3.1 x 3.0 mm, inc. leads (LxW max); Code_JEDEC: TO-236; ComponentLink1Description: Manufacturer Link; ComponentLink1URL: http://www.semiconductors.philips.com/; ComponentLink2Description: Datasheet; ComponentLink2URL: http://www.semiconductors.philips.com/acrobat/datasheets/PDTA143E_SERIES_7.pdf
footprint SOT346 (SOT-23; 3 Leads; Body 3.1 x 3.0 mm, inc. leads (LxW max))
simulation model PDTA143EK (SUBCKT)
signal-integrity model PDTA143EK
pins: 1 B, 2 E, 3 C

## PDTA143ES
designator Q?
PNP Resistor-equipped Transistor; Published: 17-Sep-2003; DatasheetVersion: 18-May-1998; PackageVersion: rev3, May-2000; PackageReference: SOT54; Publisher: Altium Limited; PackageDescription: TO, Flat Index; 3 In-Line, Axial Leads; Body Dia. 4.6mm; Leads 0.48 x 0.45 mm (max); Code_JEDEC: TO-92; ComponentLink1Description: Manufacturer Link; ComponentLink1URL: http://www.semiconductors.philips.com/; ComponentLink2Description: Datasheet; ComponentLink2URL: http://www.semiconductors.philips.com/acrobat/datasheets/PDTA143E_SERIES_7.pdf
footprint SOT54 (TO, Flat Index; 3 In-Line, Axial Leads; Body Dia. 4.6mm; Leads 0.48 x 0.45 mm (max))
simulation model PDTA143ES (SUBCKT)
signal-integrity model PDTA143ES
pins: 1 B, 2 C, 3 E

## PDTA143ET
designator Q?
PNP Resistor-equipped Transistor; Published: 17-Sep-2003; DatasheetVersion: 13-Apr-1999; PackageVersion: May-1999; PackageReference: SOT23; Publisher: Altium Limited; PackageDescription: SOT-23; 3 Leads; Body 3.0 x 2.5 mm, inc. leads (LxW max); ComponentLink1Description: Manufacturer Link; ComponentLink1URL: http://www.semiconductors.philips.com/; ComponentLink2Description: Datasheet; ComponentLink2URL: http://www.semiconductors.philips.com/acrobat/datasheets/PDTA143E_SERIES_7.pdf
footprint SOT23 (SOT-23; 3 Leads; Body 3.0 x 2.5 mm, inc. leads (LxW max))
simulation model PDTA143ET (SUBCKT)
signal-integrity model PDTA143ET
pins: 1 B, 2 E, 3 C

## PDTA143EU
designator Q?
PNP Resistor-equipped Transistor; Published: 17-Sep-2003; DatasheetVersion: 13-Apr-1999; PackageVersion: Apr-1999; PackageReference: SOT323; Publisher: Altium Limited; PackageDescription: SOT-323/SC-70; 3 Leads; Body 2.2 x 2.2 mm, inc. leads (LxW max); ComponentLink1Description: Manufacturer Link; ComponentLink1URL: http://www.semiconductors.philips.com/; ComponentLink2Description: Datasheet; ComponentLink2URL: http://www.semiconductors.philips.com/acrobat/datasheets/PDTA143E_SERIES_7.pdf
footprint SOT323 (SOT-323/SC-70; 3 Leads; Body 2.2 x 2.2 mm, inc. leads (LxW max))
simulation model PDTA143EU (SUBCKT)
signal-integrity model PDTA143EU
pins: 1 B, 2 E, 3 C

## PDTA143XE
designator Q?
PNP Resistor-equipped Transistor; Published: 17-Sep-2003; DatasheetVersion: 20-Apr-1999; PackageVersion: Apr-1999; PackageReference: SOT416; Publisher: Altium Limited; PackageDescription: SOT-416/SC-90/SC-75; 3 Leads; Body 1.8 x 1.8 mm, inc. leads (LxW max); ComponentLink1Description: Manufacturer Link; ComponentLink1URL: http://www.semiconductors.philips.com/; ComponentLink2Description: Datasheet; ComponentLink2URL: http://www.semiconductors.philips.com/acrobat/datasheets/PDTA143X_SERIES_3.pdf
footprint SOT416 (SOT-416/SC-90/SC-75; 3 Leads; Body 1.8 x 1.8 mm, inc. leads (LxW max))
simulation model PDTA143XE (SUBCKT)
signal-integrity model PDTA143XE
pins: 1 B, 2 E, 3 C

## PDTA143XT
designator Q?
PNP Resistor-equipped Transistor; Published: 17-Sep-2003; DatasheetVersion: 20-Apr-1999; PackageVersion: May-1999; PackageReference: SOT23; Publisher: Altium Limited; PackageDescription: SOT-23; 3 Leads; Body 3.0 x 2.5 mm, inc. leads (LxW max); ComponentLink1Description: Manufacturer Link; ComponentLink1URL: http://www.semiconductors.philips.com/; ComponentLink2Description: Datasheet; ComponentLink2URL: http://www.semiconductors.philips.com/acrobat/datasheets/PDTA143X_SERIES_3.pdf
footprint SOT23 (SOT-23; 3 Leads; Body 3.0 x 2.5 mm, inc. leads (LxW max))
simulation model PDTA143XT (SUBCKT)
signal-integrity model PDTA143XT
pins: 1 B, 2 E, 3 C

## PDTA143ZK
designator Q?
PNP Resistor-equipped Transistor; Published: 17-Sep-2003; DatasheetVersion: 25-May-1999; PackageVersion: Apr-1999; PackageReference: SOT346; Publisher: Altium Limited; PackageDescription: SOT-23; 3 Leads; Body 3.1 x 3.0 mm, inc. leads (LxW max); Code_JEDEC: TO-236; ComponentLink1Description: Manufacturer Link; ComponentLink1URL: http://www.semiconductors.philips.com/; ComponentLink2Description: Datasheet; ComponentLink2URL: http://www.semiconductors.philips.com/acrobat/datasheets/PDTA143Z_SERIES_6.pdf
footprint SOT346 (SOT-23; 3 Leads; Body 3.1 x 3.0 mm, inc. leads (LxW max))
simulation model PDTA143ZK (SUBCKT)
signal-integrity model PDTA143ZK
pins: 1 B, 2 E, 3 C

## PDTA143ZT
designator Q?
PNP Resistor-equipped Transistor; Published: 17-Sep-2003; DatasheetVersion: 12-Dec-1997; PackageVersion: May-1999; PackageReference: SOT23; Publisher: Altium Limited; PackageDescription: SOT-23; 3 Leads; Body 3.0 x 2.5 mm, inc. leads (LxW max); ComponentLink1Description: Manufacturer Link; ComponentLink1URL: http://www.semiconductors.philips.com/; ComponentLink2Description: Datasheet; ComponentLink2URL: http://www.semiconductors.philips.com/acrobat/datasheets/PDTA143Z_SERIES_6.pdf
footprint SOT23 (SOT-23; 3 Leads; Body 3.0 x 2.5 mm, inc. leads (LxW max))
simulation model PDTA143ZT (SUBCKT)
signal-integrity model PDTA143ZT
pins: 1 B, 2 E, 3 C

## PDTA144EE
designator Q?
PNP Resistor-equipped Transistor; Published: 17-Sep-2003; DatasheetVersion: 23-Jul-1998; PackageVersion: Apr-1999; PackageReference: SOT416; Publisher: Altium Limited; PackageDescription: SOT-416/SC-90/SC-75; 3 Leads; Body 1.8 x 1.8 mm, inc. leads (LxW max); ComponentLink1Description: Manufacturer Link; ComponentLink1URL: http://www.semiconductors.philips.com/; ComponentLink2Description: Datasheet; ComponentLink2URL: http://www.semiconductors.philips.com/acrobat/datasheets/PDTA144E_SERIES_7.pdf
footprint SOT416 (SOT-416/SC-90/SC-75; 3 Leads; Body 1.8 x 1.8 mm, inc. leads (LxW max))
simulation model PDTA144EE (SUBCKT)
signal-integrity model PDTA144EE
pins: 1 B, 2 E, 3 C

## PDTA144EEF
designator Q?
PNP Resistor-equipped Transistor; Published: 17-Sep-2003; DatasheetVersion: 20-Apr-1999; PackageVersion: Oct-1998; PackageReference: SOT490; Publisher: Altium Limited; PackageDescription: SC-89; 3 Flat Leads; Body 1.6 x 1.6 x 0.7 mm, inc leads (LxWxH typ); ComponentLink1Description: Manufacturer Link; ComponentLink1URL: http://www.semiconductors.philips.com/; ComponentLink2Description: Datasheet; ComponentLink2URL: http://www.semiconductors.philips.com/acrobat/datasheets/PDTA144E_SERIES_7.pdf
footprint SOT490 (SC-89; 3 Flat Leads; Body 1.6 x 1.6 x 0.7 mm, inc leads (LxWxH typ))
simulation model PDTA144EEF (SUBCKT)
signal-integrity model PDTA144EEF
pins: 1 B, 2 E, 3 C

## PDTA144EK
designator Q?
PNP Resistor-equipped Transistor; Published: 17-Sep-2003; DatasheetVersion: 20-May-1998; PackageVersion: Apr-1999; PackageReference: SOT346; Publisher: Altium Limited; PackageDescription: SOT-23; 3 Leads; Body 3.1 x 3.0 mm, inc. leads (LxW max); Code_JEDEC: TO-236; ComponentLink1Description: Manufacturer Link; ComponentLink1URL: http://www.semiconductors.philips.com/; ComponentLink2Description: Datasheet; ComponentLink2URL: http://www.semiconductors.philips.com/acrobat/datasheets/PDTA144E_SERIES_7.pdf
footprint SOT346 (SOT-23; 3 Leads; Body 3.1 x 3.0 mm, inc. leads (LxW max))
simulation model PDTA144EK (SUBCKT)
signal-integrity model PDTA144EK
pins: 1 B, 2 E, 3 C

## PDTA144ES
designator Q?
PNP Resistor-equipped Transistor; Published: 17-Sep-2003; DatasheetVersion: 19-May-1998; PackageVersion: rev3, May-2000; PackageReference: SOT54; Publisher: Altium Limited; PackageDescription: TO, Flat Index; 3 In-Line, Axial Leads; Body Dia. 4.6mm; Leads 0.48 x 0.45 mm (max); Code_JEDEC: TO-92; ComponentLink1Description: Manufacturer Link; ComponentLink1URL: http://www.semiconductors.philips.com/; ComponentLink2Description: Datasheet; ComponentLink2URL: http://www.semiconductors.philips.com/acrobat/datasheets/PDTA144E_SERIES_7.pdf
footprint SOT54 (TO, Flat Index; 3 In-Line, Axial Leads; Body Dia. 4.6mm; Leads 0.48 x 0.45 mm (max))
simulation model PDTA144ES (SUBCKT)
signal-integrity model PDTA144ES
pins: 1 B, 2 C, 3 E

## PDTA144ET
designator Q?
PNP Resistor-equipped Transistor; Published: 17-Sep-2003; DatasheetVersion: 15-Apr-1999; PackageVersion: May-1999; PackageReference: SOT23; Publisher: Altium Limited; PackageDescription: SOT-23; 3 Leads; Body 3.0 x 2.5 mm, inc. leads (LxW max); ComponentLink1Description: Manufacturer Link; ComponentLink1URL: http://www.semiconductors.philips.com/; ComponentLink2Description: Datasheet; ComponentLink2URL: http://www.semiconductors.philips.com/acrobat/datasheets/PDTA144E_SERIES_7.pdf
footprint SOT23 (SOT-23; 3 Leads; Body 3.0 x 2.5 mm, inc. leads (LxW max))
simulation model PDTA144ET (SUBCKT)
signal-integrity model PDTA144ET
pins: 1 B, 2 E, 3 C

## PDTA144EU
designator Q?
PNP Resistor-equipped Transistor; Published: 17-Sep-2003; DatasheetVersion: 15-Apr-1999; PackageVersion: Apr-1999; PackageReference: SOT323; Publisher: Altium Limited; PackageDescription: SOT-323/SC-70; 3 Leads; Body 2.2 x 2.2 mm, inc. leads (LxW max); ComponentLink1Description: Manufacturer Link; ComponentLink1URL: http://www.semiconductors.philips.com/; ComponentLink2Description: Datasheet; ComponentLink2URL: http://www.semiconductors.philips.com/acrobat/datasheets/PDTA144E_SERIES_7.pdf
footprint SOT323 (SOT-323/SC-70; 3 Leads; Body 2.2 x 2.2 mm, inc. leads (LxW max))
simulation model PDTA144EU (SUBCKT)
signal-integrity model PDTA144EU
pins: 1 B, 2 E, 3 C

## PDTA144WU
designator Q?
PNP Resistor-equipped Transistor; Published: 17-Sep-2003; DatasheetVersion: 25-May-1999; PackageVersion: Apr-1999; PackageReference: SOT323; Publisher: Altium Limited; PackageDescription: SOT-323/SC-70; 3 Leads; Body 2.2 x 2.2 mm, inc. leads (LxW max); ComponentLink1Description: Manufacturer Link; ComponentLink1URL: http://www.semiconductors.philips.com/; ComponentLink2Description: Datasheet; ComponentLink2URL: http://www.semiconductors.philips.com/acrobat/datasheets/PDTA144W_SERIES_7.pdf
footprint SOT323 (SOT-323/SC-70; 3 Leads; Body 2.2 x 2.2 mm, inc. leads (LxW max))
simulation model PDTA144WU (SUBCKT)
signal-integrity model PDTA144WU
pins: 1 B, 2 E, 3 C

## PDTC114EE
designator Q?
NPN Resistor-equipped Transistor; Published: 17-Sep-2003; DatasheetVersion: 18-May-1999; PackageVersion: Apr-1999; PackageReference: SOT416; Publisher: Altium Limited; PackageDescription: SOT-416/SC-90/SC-75; 3 Leads; Body 1.8 x 1.8 mm, inc. leads (LxW max); ComponentLink1Description: Manufacturer Link; ComponentLink1URL: http://www.semiconductors.philips.com/; ComponentLink2Description: Datasheet; ComponentLink2URL: http://www.semiconductors.philips.com/acrobat/datasheets/PDTC114E_SERIES_10.pdf
footprint SOT416 (SOT-416/SC-90/SC-75; 3 Leads; Body 1.8 x 1.8 mm, inc. leads (LxW max))
simulation model PDTC114EE (SUBCKT)
signal-integrity model PDTC114EE
pins: 1 B, 2 E, 3 C

## PDTC114EEF
designator Q?
NPN Resistor-equipped Transistor; Published: 17-Sep-2003; DatasheetVersion: 31-May-1999; PackageVersion: Oct-1998; PackageReference: SOT490; Publisher: Altium Limited; PackageDescription: SC-89; 3 Flat Leads; Body 1.6 x 1.6 x 0.7 mm, inc leads (LxWxH typ); ComponentLink1Description: Manufacturer Link; ComponentLink1URL: http://www.semiconductors.philips.com/; ComponentLink2Description: Datasheet; ComponentLink2URL: http://www.semiconductors.philips.com/acrobat/datasheets/PDTC114E_SERIES_10.pdf
footprint SOT490 (SC-89; 3 Flat Leads; Body 1.6 x 1.6 x 0.7 mm, inc leads (LxWxH typ))
simulation model PDTC114EEF (SUBCKT)
signal-integrity model PDTC114EEF
pins: 1 B, 2 E, 3 C

## PDTC114EK
designator Q?
NPN Resistor-equipped Transistor; Published: 17-Sep-2003; DatasheetVersion: 26-Nov-1998; PackageVersion: Apr-1999; PackageReference: SOT346; Publisher: Altium Limited; PackageDescription: SOT-23; 3 Leads; Body 3.1 x 3.0 mm, inc. leads (LxW max); Code_JEDEC: TO-236; ComponentLink1Description: Manufacturer Link; ComponentLink1URL: http://www.semiconductors.philips.com/; ComponentLink2Description: Datasheet; ComponentLink2URL: http://www.semiconductors.philips.com/acrobat/datasheets/PDTC114E_SERIES_10.pdf
footprint SOT346 (SOT-23; 3 Leads; Body 3.1 x 3.0 mm, inc. leads (LxW max))
simulation model PDTC114EK (SUBCKT)
signal-integrity model PDTC114EK
pins: 1 B, 2 E, 3 C

## PDTC114ES
designator Q?
NPN Resistor-equipped Transistor; Published: 17-Sep-2003; DatasheetVersion: 26-Nov-1998; PackageVersion: rev3, May-2000; PackageReference: SOT54; Publisher: Altium Limited; PackageDescription: TO, Flat Index; 3 In-Line, Axial Leads; Body Dia. 4.6mm; Leads 0.48 x 0.45 mm (max); Code_JEDEC: TO-92; ComponentLink1Description: Manufacturer Link; ComponentLink1URL: http://www.semiconductors.philips.com/; ComponentLink2Description: Datasheet; ComponentLink2URL: http://www.semiconductors.philips.com/acrobat/datasheets/PDTC114E_SERIES_10.pdf
footprint SOT54 (TO, Flat Index; 3 In-Line, Axial Leads; Body Dia. 4.6mm; Leads 0.48 x 0.45 mm (max))
simulation model PDTC114ES (SUBCKT)
signal-integrity model PDTC114ES
pins: 1 B, 2 C, 3 E